# EAGLE library part SHIFT_REGISTER (library Solenoid_parts)
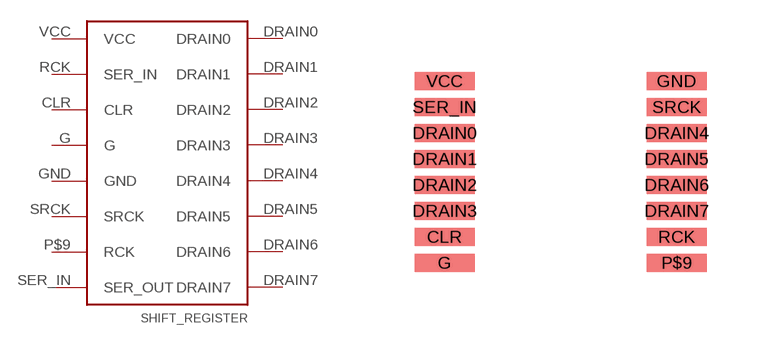
[diagram p0: symbol with the pads of SHIFT_REGISTER; footprint SHIFT_REGISTER]

Designator prefix -

## SHIFT_REGISTER  [SHIFT_REGISTER]
CLR  CLR
DRAIN0  DRAIN0
DRAIN1  DRAIN1
DRAIN2  DRAIN2
DRAIN3  DRAIN3
DRAIN4  DRAIN4
DRAIN5  DRAIN5
DRAIN6  DRAIN6
DRAIN7  DRAIN7
G  G
GND  GND
P$9  RCK
RCK  SER_IN
SER_IN  SER_OUT
SRCK  SRCK
VCC  VCC

## Footprint SHIFT_REGISTER (pad centres in mm)
smd 1.5 x 0.45: CLR -2.9,-1.625; DRAIN0 -2.9,0.975; DRAIN1 -2.9,0.325; DRAIN2 -2.9,-0.325; DRAIN3 -2.9,-0.975; DRAIN4 2.9,0.975; DRAIN5 2.9,0.325; DRAIN6 2.9,-0.325; DRAIN7 2.9,-0.975; G -2.9,-2.275; GND 2.9,2.275; P$9 2.9,-2.275; RCK 2.9,-1.625; SER_IN -2.9,1.625; SRCK 2.9,1.625; VCC -2.9,2.275